# EAGLE library part SLA7052M (library allegro)
UNIPOLAR STEPPER-MOTOR TRANSLATOR/PWM DRIVER Source: 97052.pdf
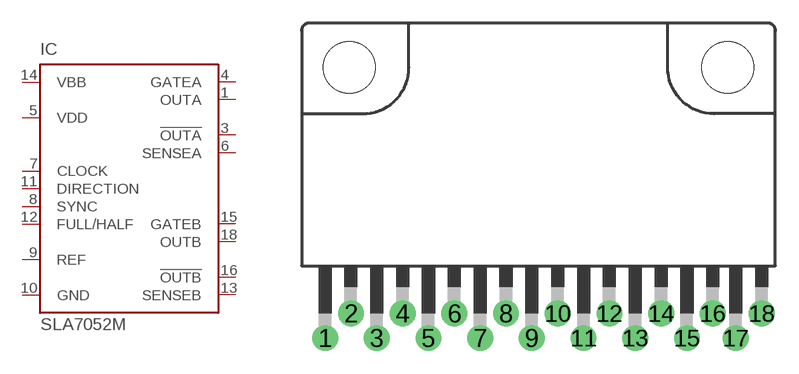
[diagram p5: symbol with the pads of SLA7052MLF872; footprint SLA7052MLF872]

Designator prefix IC

## SLA7052M (MF: ALLEGRO MICROSYSTEMS, INC.; MPN: SLA7052M; OC_FARNELL: unknown; OC_NEWARK: 31K7434)  [SLA7052MLF872]
1  OUTA  out
3  !OUTA  out
4  GATEA  pas
5  VDD  pwr
6  SENSEA  pas
7  CLOCK  pwr
8  SYNC  pwr
9  REF  pwr
10  GND  pwr
11  DIRECTION  pwr
12  FULL/HALF  pwr
13  SENSEB  pas
14  VBB  pwr
15  GATEB  pas
16  !OUTB  out
18  OUTB  out

## Footprint SLA7052MLF872 (pad centres in mm)
SLA7052MLF872 Source: 97052.pdf
drill 1.1 pad 1.676 round: 1 -13.87,-17.6; 2 -12.19,-16; 3 -10.51,-17.6; 4 -8.83,-16; 5 -7.15,-17.6; 6 -5.47,-16; 7 -3.79,-17.6; 8 -2.11,-16; 9 -0.43,-17.6; 10 1.25,-16; 11 2.93,-17.6; 12 4.61,-16; 13 6.29,-17.6; 14 7.97,-16; 15 9.65,-17.6; 16 11.33,-16; 17 12.825,-17.6; 18 14.505,-16
hole 3.35 at -12.3,0
hole 3.35 at 12.3,0